# Altium footprint library CONN_TBLOCK_5P0_B.PcbLib: 72 footprints (part 3 of 5)
Each footprint in its own frame and in the unit in brackets; x right, y up, seen from the top. Pads: shape width x height; smd on the part's side, far side on the other; paste and mask are expansions set on the pad; w line width, h text height; cw(c..) or ccw(c..) is an arc to the next point about the centre after c.
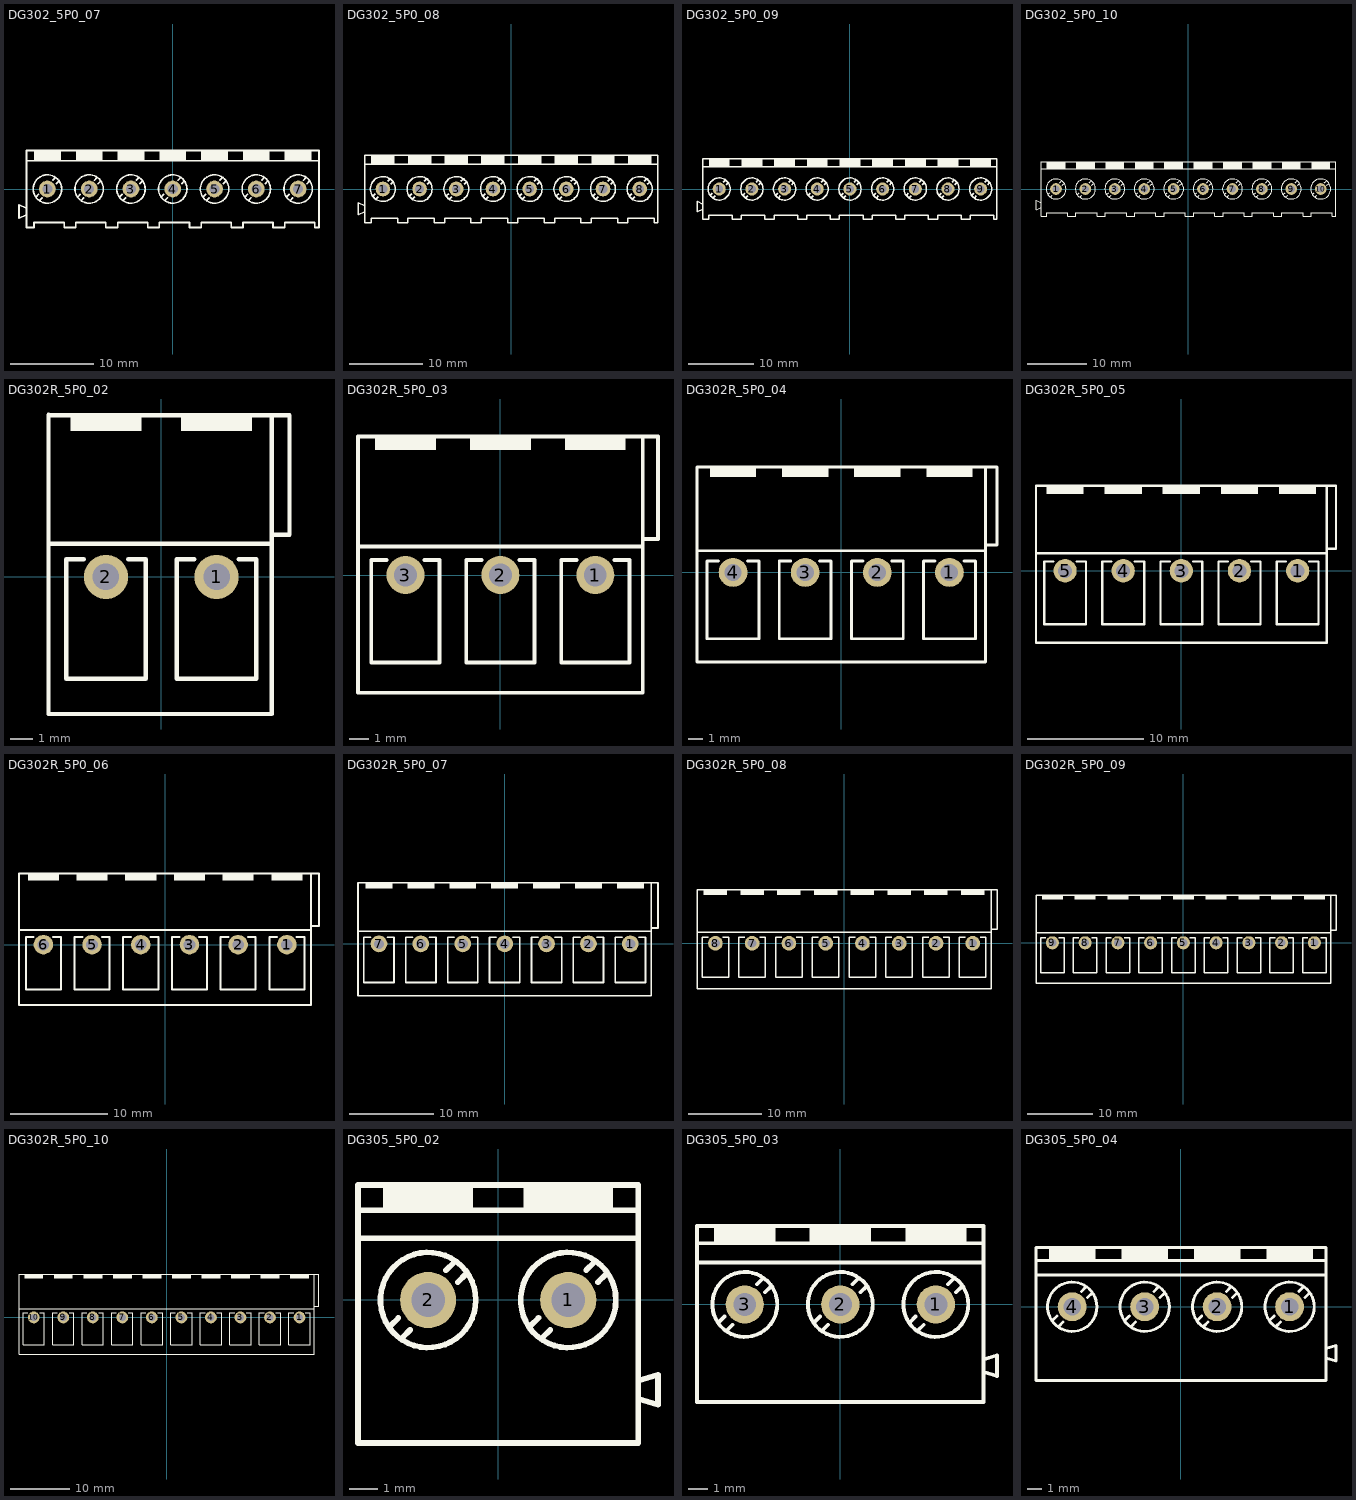
[diagram p2: the footprints below, top view; thin cyan lines are the x and y axes]

## DG302_5P0_07 [mm] "Terminal Screw, Pitch 5mm, H 13.5mm"
height 13.5
pads (7):
  round 2 / inner round 2 / far side rect 2.4x3 hole 1.2: 1(-15,0)
  round 2 / inner round 2 / far side oval 2.4x3 hole 1.2: 2(-10,0) 3(-5,0) 4(0,0) 5(5,0) 6(10,0) 7(15,0)
Top Overlay:
  circle w0.2: c-10,0 r1.7
  circle w0.2: c-15,0 r1.7
  circle w0.2: c0,0 r1.7
  circle w0.2: c-5,0 r1.7
  circle w0.2: c10,0 r1.7
  circle w0.2: c5,0 r1.7
  circle w0.2: c15,0 r1.7
  region: -13.4,4.6 -16.6,4.6 -16.6,3.4 -13.4,3.4
  rectangle: -11.6,3.4 -8.4,4.6
  region: -3.4,4.6 -6.6,4.6 -6.6,3.4 -3.4,3.4
  rectangle: -1.6,3.4 1.6,4.6
  region: 6.6,4.6 3.4,4.6 3.4,3.4 6.6,3.4
  rectangle: 8.4,3.4 11.6,4.6
  rectangle: 13.4,3.4 16.6,4.6
  lines w0.2: -17.5,3.4 17.5,3.4 ; -17.5,-3.1 -18.4,-3.5 -18.4,-1.9 -17.5,-2.3 ; -16.343,-0.919 -16.06,-0.636 ; -15.919,-1.344 -15.636,-1.061 ; -14.363,1.061 -14.081,1.343 ; -13.939,0.636 -13.656,0.919 ; -11.343,-0.919 -11.061,-0.636 ; -10.919,-1.344 -10.636,-1.061 ; -9.364,1.061 -9.081,1.343 ; -8.939,0.636 -8.656,0.919 ; -6.343,-0.919 -6.061,-0.636 ; -5.919,-1.344 -5.636,-1.061 ; -4.364,1.061 -4.081,1.343 ; -3.939,0.636 -3.656,0.919 ; -1.344,-0.919 -1.061,-0.636 ; -0.919,-1.344 -0.636,-1.061 ; 0.636,1.061 0.919,1.343 ; 1.061,0.636 1.343,0.919 ; 3.656,-0.919 3.939,-0.636 ; 4.081,-1.344 4.364,-1.061 ; 5.636,1.061 5.919,1.343 ; 6.061,0.636 6.343,0.919 ; 8.656,-0.919 8.939,-0.636 ; 9.081,-1.344 9.363,-1.061 ; 10.636,1.061 10.919,1.343 ; 11.061,0.636 11.343,0.919 ; 13.656,-0.919 13.939,-0.636 ; 14.081,-1.344 14.363,-1.061 ; 15.636,1.061 15.919,1.343 ; 16.06,0.636 16.343,0.919 ; -17.5,-4.6 -17.5,4.6 17.5,4.6 17.5,-4.6 17,-4.6 17,-4 13.4,-4 13.4,-4.6 12,-4.6 12,-4 8.4,-4 8.4,-4.6 7,-4.6 7,-4 3.4,-4 3.4,-4.6 2,-4.6 2,-4 -1.6,-4 -1.6,-4.6 -3,-4.6 -3,-4 -6.6,-4 -6.6,-4.6 -8,-4.6 -8,-4 -11.6,-4 -11.6,-4.6 -13,-4.6 -13,-4 -16.6,-4 -16.6,-4.6 -17.5,-4.6
3D body "DG302-5.0-07P-14.stp": height 13.5, standoff -4.1, extent -18.22,-4.5 17.58,4.5

## DG302_5P0_08 [mm] "Terminal Screw, Pitch 5mm, H 13.5mm"
height 13.5
pads (8):
  round 2 / inner round 2 / far side rect 2.4x3 hole 1.2: 1(-17.5,0)
  round 2 / inner round 2 / far side oval 2.4x3 hole 1.2: 2(-12.5,0) 3(-7.5,0) 4(-2.5,0) 5(2.5,0) 6(7.5,0) 7(12.5,0) 8(17.5,0)
Top Overlay:
  circle w0.2: c17.5,0 r1.7
  circle w0.2: c12.5,0 r1.7
  circle w0.2: c2.5,0 r1.7
  circle w0.2: c7.5,0 r1.7
  circle w0.2: c-7.5,0 r1.7
  circle w0.2: c-2.5,0 r1.7
  circle w0.2: c-17.5,0 r1.7
  circle w0.2: c-12.5,0 r1.7
  rectangle: 15.9,3.4 19.1,4.6
  region: 14.1,4.6 10.9,4.6 10.9,3.4 14.1,3.4
  rectangle: 5.9,3.4 9.1,4.6
  region: 4.1,4.6 0.9,4.6 0.9,3.4 4.1,3.4
  rectangle: -4.1,3.4 -0.9,4.6
  region: -5.9,4.6 -9.1,4.6 -9.1,3.4 -5.9,3.4
  rectangle: -14.1,3.4 -10.9,4.6
  region: -15.9,4.6 -19.1,4.6 -19.1,3.4 -15.9,3.4
  lines w0.2: -20,-3.1 -20.9,-3.5 -20.9,-1.9 -20,-2.3 ; -20,3.4 20,3.4 ; -18.843,-0.919 -18.56,-0.636 ; -18.419,-1.344 -18.136,-1.061 ; -16.863,1.061 -16.581,1.343 ; -16.439,0.636 -16.156,0.919 ; -13.843,-0.919 -13.561,-0.636 ; -13.419,-1.344 -13.136,-1.061 ; -11.863,1.061 -11.581,1.343 ; -11.439,0.636 -11.156,0.919 ; -8.843,-0.919 -8.561,-0.636 ; -8.419,-1.344 -8.136,-1.061 ; -6.864,1.061 -6.581,1.343 ; -6.439,0.636 -6.156,0.919 ; -3.843,-0.919 -3.561,-0.636 ; -3.419,-1.344 -3.136,-1.061 ; -1.864,1.061 -1.581,1.343 ; -1.439,0.636 -1.156,0.919 ; 1.156,-0.919 1.439,-0.636 ; 1.581,-1.344 1.864,-1.061 ; 3.136,1.061 3.419,1.343 ; 3.561,0.636 3.843,0.919 ; 6.156,-0.919 6.439,-0.636 ; 6.581,-1.344 6.863,-1.061 ; 8.136,1.061 8.419,1.343 ; 8.561,0.636 8.843,0.919 ; 11.156,-0.919 11.439,-0.636 ; 11.581,-1.344 11.863,-1.061 ; 13.136,1.061 13.419,1.343 ; 13.56,0.636 13.843,0.919 ; 16.156,-0.919 16.439,-0.636 ; 16.581,-1.344 16.863,-1.061 ; 18.136,1.061 18.419,1.343 ; 18.56,0.636 18.843,0.919 ; -20,-4.6 -19.1,-4.6 -19.1,-4 -15.5,-4 -15.5,-4.6 -14.1,-4.6 -14.1,-4 -10.5,-4 -10.5,-4.6 -9.1,-4.6 -9.1,-4 -5.5,-4 -5.5,-4.6 -4.1,-4.6 -4.1,-4 -0.5,-4 -0.5,-4.6 0.9,-4.6 0.9,-4 4.5,-4 4.5,-4.6 5.9,-4.6 5.9,-4 9.5,-4 9.5,-4.6 10.9,-4.6 10.9,-4 14.5,-4 14.5,-4.6 15.9,-4.6 15.9,-4 19.5,-4 19.5,-4.6 20,-4.6 20,4.6 -20,4.6 -20,-4.6
3D body "DG302-5.0-08P-14.stp": height 13.5, standoff -4.1, extent -20.8,-4.5 20,4.5

## DG302_5P0_09 [mm] "Terminal Screw, Pitch 5mm, H 13.5mm"
height 13.5
pads (9):
  round 2 / inner round 2 / far side rect 2.4x3 hole 1.2: 1(-20,0)
  round 2 / inner round 2 / far side oval 2.4x3 hole 1.2: 2(-15,0) 3(-10,0) 4(-5,0) 5(0,0) 6(5,0) 7(10,0) 8(15,0) 9(20,0)
Top Overlay:
  circle w0.2: c-15,0 r1.7
  circle w0.2: c-20,0 r1.7
  circle w0.2: c-5,0 r1.7
  circle w0.2: c-10,0 r1.7
  circle w0.2: c5,0 r1.7
  circle w0.2: c0,0 r1.7
  circle w0.2: c15,0 r1.7
  circle w0.2: c10,0 r1.7
  circle w0.2: c20,0 r1.7
  region: -18.4,4.6 -21.6,4.6 -21.6,3.4 -18.4,3.4
  rectangle: -16.6,3.4 -13.4,4.6
  region: -8.4,4.6 -11.6,4.6 -11.6,3.4 -8.4,3.4
  rectangle: -6.6,3.4 -3.4,4.6
  region: 1.6,4.6 -1.6,4.6 -1.6,3.4 1.6,3.4
  rectangle: 3.4,3.4 6.6,4.6
  region: 11.6,4.6 8.4,4.6 8.4,3.4 11.6,3.4
  rectangle: 13.4,3.4 16.6,4.6
  rectangle: 18.4,3.4 21.6,4.6
  lines w0.2: -22.5,3.4 22.5,3.4 ; -22.5,-3.1 -23.4,-3.5 -23.4,-1.9 -22.5,-2.3 ; -21.343,-0.919 -21.06,-0.636 ; -20.919,-1.344 -20.636,-1.061 ; -19.363,1.061 -19.081,1.343 ; -18.939,0.636 -18.656,0.919 ; -16.343,-0.919 -16.06,-0.636 ; -15.919,-1.344 -15.636,-1.061 ; -14.363,1.061 -14.081,1.343 ; -13.939,0.636 -13.656,0.919 ; -11.343,-0.919 -11.061,-0.636 ; -10.919,-1.344 -10.636,-1.061 ; -9.364,1.061 -9.081,1.343 ; -8.939,0.636 -8.656,0.919 ; -6.343,-0.919 -6.061,-0.636 ; -5.919,-1.344 -5.636,-1.061 ; -4.364,1.061 -4.081,1.343 ; -3.939,0.636 -3.656,0.919 ; -1.344,-0.919 -1.061,-0.636 ; -0.919,-1.344 -0.636,-1.061 ; 0.636,1.061 0.919,1.343 ; 1.061,0.636 1.343,0.919 ; 3.656,-0.919 3.939,-0.636 ; 4.081,-1.344 4.364,-1.061 ; 5.636,1.061 5.919,1.343 ; 6.061,0.636 6.343,0.919 ; 8.656,-0.919 8.939,-0.636 ; 9.081,-1.344 9.363,-1.061 ; 10.636,1.061 10.919,1.343 ; 11.061,0.636 11.343,0.919 ; 13.656,-0.919 13.939,-0.636 ; 14.081,-1.344 14.363,-1.061 ; 15.636,1.061 15.919,1.343 ; 16.06,0.636 16.343,0.919 ; 18.656,-0.919 18.939,-0.636 ; 19.08,-1.344 19.363,-1.061 ; 20.636,1.061 20.919,1.343 ; 21.06,0.636 21.343,0.919 ; -22.5,-4.6 -22.5,4.6 22.5,4.6 22.5,-4.6 21.999,-4.6 21.999,-4 18.399,-4 18.399,-4.6 17,-4.6 17,-4 13.4,-4 13.4,-4.6 12,-4.6 12,-4 8.4,-4 8.4,-4.6 7,-4.6 7,-4 3.4,-4 3.4,-4.6 2,-4.6 2,-4 -1.6,-4 -1.6,-4.6 -3,-4.6 -3,-4 -6.6,-4 -6.6,-4.6 -8,-4.6 -8,-4 -11.6,-4 -11.6,-4.6 -13,-4.6 -13,-4 -16.6,-4 -16.6,-4.6 -18,-4.6 -18,-4 -21.6,-4 -21.6,-4.6 -22.5,-4.6
3D body "DG302-5.0-09P-14.stp": height 13.5, standoff -4.1, extent -23.3,-4.5 22.5,4.5

## DG302_5P0_10 [mm] "Terminal Screw, Pitch 5mm, H 13.5mm"
height 13.5
pads (10):
  round 2 / inner round 2 / far side rect 2.4x3 hole 1.2: 1(-22.5,0)
  round 2 / inner round 2 / far side oval 2.4x3 hole 1.2: 2(-17.5,0) 3(-12.5,0) 4(-7.5,0) 5(-2.5,0) 6(2.5,0) 7(7.5,0) 8(12.5,0) 9(17.5,0) 10(22.5,0)
Top Overlay:
  circle w0.2: c-17.5,0 r1.7
  circle w0.2: c-22.5,0 r1.7
  circle w0.2: c-7.5,0 r1.7
  circle w0.2: c-12.5,0 r1.7
  circle w0.2: c2.5,0 r1.7
  circle w0.2: c-2.5,0 r1.7
  circle w0.2: c12.5,0 r1.7
  circle w0.2: c7.5,0 r1.7
  circle w0.2: c22.5,0 r1.7
  circle w0.2: c17.5,0 r1.7
  region: -20.9,4.6 -24.1,4.6 -24.1,3.4 -20.9,3.4
  rectangle: -19.1,3.4 -15.9,4.6
  region: -10.9,4.6 -14.1,4.6 -14.1,3.4 -10.9,3.4
  rectangle: -9.1,3.4 -5.9,4.6
  region: -0.9,4.6 -4.1,4.6 -4.1,3.4 -0.9,3.4
  rectangle: 0.9,3.4 4.1,4.6
  region: 9.1,4.6 5.9,4.6 5.9,3.4 9.1,3.4
  rectangle: 10.9,3.4 14.1,4.6
  region: 19.1,4.6 15.9,4.6 15.9,3.4 19.1,3.4
  rectangle: 20.9,3.4 24.1,4.6
  lines w0.2: -25,-3.1 -25.9,-3.5 -25.9,-1.9 -25,-2.3 ; -25,3.4 25.1,3.4 ; -23.843,-0.919 -23.56,-0.636 ; -23.419,-1.344 -23.136,-1.061 ; -21.863,1.061 -21.581,1.343 ; -21.439,0.636 -21.156,0.919 ; -18.843,-0.919 -18.56,-0.636 ; -18.419,-1.344 -18.136,-1.061 ; -16.863,1.061 -16.581,1.343 ; -16.439,0.636 -16.156,0.919 ; -13.843,-0.919 -13.561,-0.636 ; -13.419,-1.344 -13.136,-1.061 ; -11.863,1.061 -11.581,1.343 ; -11.439,0.636 -11.156,0.919 ; -8.843,-0.919 -8.561,-0.636 ; -8.419,-1.344 -8.136,-1.061 ; -6.864,1.061 -6.581,1.343 ; -6.439,0.636 -6.156,0.919 ; -3.843,-0.919 -3.561,-0.636 ; -3.419,-1.344 -3.136,-1.061 ; -1.864,1.061 -1.581,1.343 ; -1.439,0.636 -1.156,0.919 ; 1.156,-0.919 1.439,-0.636 ; 1.581,-1.344 1.864,-1.061 ; 3.136,1.061 3.419,1.343 ; 3.561,0.636 3.843,0.919 ; 6.156,-0.919 6.439,-0.636 ; 6.581,-1.344 6.863,-1.061 ; 8.136,1.061 8.419,1.343 ; 8.561,0.636 8.843,0.919 ; 11.156,-0.919 11.439,-0.636 ; 11.581,-1.344 11.863,-1.061 ; 13.136,1.061 13.419,1.343 ; 13.56,0.636 13.843,0.919 ; 16.156,-0.919 16.439,-0.636 ; 16.581,-1.344 16.863,-1.061 ; 18.136,1.061 18.419,1.343 ; 18.56,0.636 18.843,0.919 ; 21.156,-0.919 21.439,-0.636 ; 21.58,-1.344 21.863,-1.061 ; 23.136,1.061 23.419,1.343 ; 23.56,0.636 23.843,0.919 ; -25,-4.6 -25,4.6 25.1,4.6 25.1,-4.6 24.499,-4.6 24.499,-4 20.899,-4 20.899,-4.6 19.5,-4.6 19.5,-4 15.9,-4 15.9,-4.6 14.5,-4.6 14.5,-4 10.9,-4 10.9,-4.6 9.5,-4.6 9.5,-4 5.9,-4 5.9,-4.6 4.5,-4.6 4.5,-4 0.9,-4 0.9,-4.6 -0.5,-4.6 -0.5,-4 -4.1,-4 -4.1,-4.6 -5.5,-4.6 -5.5,-4 -9.1,-4 -9.1,-4.6 -10.5,-4.6 -10.5,-4 -14.1,-4 -14.1,-4.6 -15.5,-4.6 -15.5,-4 -19.1,-4 -19.1,-4.6 -20.5,-4.6 -20.5,-4 -24.1,-4 -24.1,-4.6 -25,-4.6
3D body "DG302-5.0-10P-14.stp": height 13.5, standoff -4.1, extent -25.8,-4.5 25,4.5

## DG302R_5P0_02 [mm] "Terminal Screw, Pitch 5mm, H 9mm"
height 10
pads (2):
  round 2 / inner round 2 / far side rect 2.4x3 hole 1.2: 1(2.5,0)
  round 2 / inner round 2 / far side oval 2.4x3 hole 1.2: 2(-2.5,0)
Top Overlay:
  region: -0.9,7.366 -4.1,7.366 -4.1,6.6 -0.9,6.6
  region: 4.1,7.366 0.9,7.366 0.9,6.6 4.1,6.6
  lines w0.2: -5.1,1.5 5,1.5 ; -5.1,7.3 5,7.3 ; -5.1,7.323 -5.1,-6.2 5,-6.2 5,7.3 ; -3.5,0.8 -4.3,0.8 -4.3,-4.6 -0.7,-4.6 -0.7,0.8 -1.5,0.8 ; 1.5,0.8 0.7,0.8 0.7,-4.6 4.3,-4.6 4.3,0.8 3.5,0.8 ; 5,1.9 5.8,1.9 5.8,7.3 5,7.3
3D body "DG302R-5.0-02P-12-00AH.STEP": height 9, standoff -4.1, extent -5.009,-6.273 5.791,7.227

## DG302R_5P0_03 [mm] "Terminal Screw, Pitch 5mm, H 9mm"
height 10
pads (3):
  round 2 / inner round 2 / far side rect 2.4x3 hole 1.2: 1(5,0)
  round 2 / inner round 2 / far side oval 2.4x3 hole 1.2: 2(0,0) 3(-5,0)
Top Overlay:
  region: 1.6,7.366 -1.6,7.366 -1.6,6.6 1.6,6.6
  region: 6.6,7.366 3.4,7.366 3.4,6.6 6.6,6.6
  region: -3.4,7.366 -6.6,7.366 -6.6,6.6 -3.4,6.6
  lines w0.2: -7.5,1.5 7.5,1.5 ; -6,0.8 -6.8,0.8 -6.8,-4.6 -3.2,-4.6 -3.2,0.8 -4,0.8 ; -1,0.8 -1.8,0.8 -1.8,-4.6 1.8,-4.6 1.8,0.8 1,0.8 ; 4,0.8 3.2,0.8 3.2,-4.6 6.8,-4.6 6.8,0.8 6,0.8 ; 7.5,-6.2 7.5,7.3 8.3,7.3 8.3,1.9 7.5,1.9 ; 7.5,-6.2 -7.5,-6.2 -7.5,7.3 7.5,7.3
3D body "DG302R-5.0-03P-12-00AH.STEP": height 9, standoff -4.1, extent -7.466,-6.3 8.334,7.2

## DG302R_5P0_04 [mm] "Terminal Screw, Pitch 5mm, H 9mm"
height 10
pads (4):
  round 2 / inner round 2 / far side rect 2.4x3 hole 1.2: 1(7.5,0)
  round 2 / inner round 2 / far side oval 2.4x3 hole 1.2: 2(2.5,0) 3(-2.5,0) 4(-7.5,0)
Top Overlay:
  region: 4.1,7.366 0.9,7.366 0.9,6.6 4.1,6.6
  region: 9.1,7.366 5.9,7.366 5.9,6.6 9.1,6.6
  region: -5.9,7.366 -9.1,7.366 -9.1,6.6 -5.9,6.6
  region: -0.9,7.366 -4.1,7.366 -4.1,6.6 -0.9,6.6
  lines w0.2: -10,1.5 10,1.5 ; -8.5,0.8 -9.3,0.8 -9.3,-4.6 -5.7,-4.6 -5.7,0.8 -6.5,0.8 ; -3.5,0.8 -4.3,0.8 -4.3,-4.6 -0.7,-4.6 -0.7,0.8 -1.5,0.8 ; 1.5,0.8 0.7,0.8 0.7,-4.6 4.3,-4.6 4.3,0.8 3.5,0.8 ; 6.5,0.8 5.7,0.8 5.7,-4.6 9.3,-4.6 9.3,0.8 8.5,0.8 ; 10,1.9 10.8,1.9 10.8,7.3 10,7.3 ; 10,7.3 -10,7.3 -10,-6.2 10,-6.2 10,7.3
3D body "DG302R-5.0-04P-12-00AH.STEP": height 9, standoff -4.1, extent -10.026,-6.25 10.774,7.25

## DG302R_5P0_05 [mm] "Terminal Screw, Pitch 5mm, H 9mm"
height 10
pads (5):
  round 2 / inner round 2 / far side rect 2.4x3 hole 1.2: 1(10,0)
  round 2 / inner round 2 / far side oval 2.4x3 hole 1.2: 2(5,0) 3(0,0) 4(-5,0) 5(-10,0)
Top Overlay:
  region: -8.4,7.366 -11.6,7.366 -11.6,6.6 -8.4,6.6
  region: 1.6,7.366 -1.6,7.366 -1.6,6.6 1.6,6.6
  region: -3.4,7.366 -6.6,7.366 -6.6,6.6 -3.4,6.6
  region: 11.6,7.366 8.4,7.366 8.4,6.6 11.6,6.6
  region: 6.6,7.366 3.4,7.366 3.4,6.6 6.6,6.6
  lines w0.2: -12.5,1.5 12.5,1.5 ; -11,0.8 -11.8,0.8 -11.8,-4.6 -8.2,-4.6 -8.2,0.8 -9,0.8 ; -6,0.8 -6.8,0.8 -6.8,-4.6 -3.2,-4.6 -3.2,0.8 -4,0.8 ; -1,0.8 -1.8,0.8 -1.8,-4.6 1.8,-4.6 1.8,0.8 1,0.8 ; 4,0.8 3.2,0.8 3.2,-4.6 6.8,-4.6 6.8,0.8 6,0.8 ; 9,0.8 8.2,0.8 8.2,-4.6 11.8,-4.6 11.8,0.8 11,0.8 ; 12.5,-6.2 12.5,7.3 13.3,7.3 13.3,1.9 12.5,1.9 ; 12.5,-6.2 -12.5,-6.2 -12.5,7.3 12.5,7.3
3D body "DG302R-5.0-05P-12-00AH.STEP": height 9, standoff -4.1, extent -12.493,-6.242 13.307,7.258

## DG302R_5P0_06 [mm] "Terminal Screw, Pitch 5mm, H 9mm"
height 10
pads (6):
  round 2 / inner round 2 / far side rect 2.4x3 hole 1.2: 1(12.5,0)
  round 2 / inner round 2 / far side oval 2.4x3 hole 1.2: 2(7.5,0) 3(2.5,0) 4(-2.5,0) 5(-7.5,0) 6(-12.5,0)
Top Overlay:
  region: -5.9,7.366 -9.1,7.366 -9.1,6.6 -5.9,6.6
  region: -10.9,7.366 -14.1,7.366 -14.1,6.6 -10.9,6.6
  region: 4.1,7.366 0.9,7.366 0.9,6.6 4.1,6.6
  region: -0.9,7.366 -4.1,7.366 -4.1,6.6 -0.9,6.6
  region: 14.1,7.366 10.9,7.366 10.9,6.6 14.1,6.6
  region: 9.1,7.366 5.9,7.366 5.9,6.6 9.1,6.6
  lines w0.2: -15,1.5 15,1.5 ; -13.5,0.8 -14.3,0.8 -14.3,-4.6 -10.7,-4.6 -10.7,0.8 -11.5,0.8 ; -8.5,0.8 -9.3,0.8 -9.3,-4.6 -5.7,-4.6 -5.7,0.8 -6.5,0.8 ; -3.5,0.8 -4.3,0.8 -4.3,-4.6 -0.7,-4.6 -0.7,0.8 -1.5,0.8 ; 1.5,0.8 0.7,0.8 0.7,-4.6 4.3,-4.6 4.3,0.8 3.5,0.8 ; 6.5,0.8 5.7,0.8 5.7,-4.6 9.3,-4.6 9.3,0.8 8.5,0.8 ; 11.5,0.8 10.7,0.8 10.7,-4.6 14.3,-4.6 14.3,0.8 13.5,0.8 ; 15,1.9 15.8,1.9 15.8,7.3 15,7.3 ; 15,7.3 15,-6.2 -15,-6.2 -15,7.3 15,7.3
3D body "DG302R-5.0-06P-12-00AH.STEP": height 9, standoff -4.1, extent -15.026,-6.273 15.774,7.227

## DG302R_5P0_07 [mm] "Terminal Screw, Pitch 5mm, H 9mm"
height 10
pads (7):
  round 2 / inner round 2 / far side rect 2.4x3 hole 1.2: 1(15,0)
  round 2 / inner round 2 / far side oval 2.4x3 hole 1.2: 2(10,0) 3(5,0) 4(0,0) 5(-5,0) 6(-10,0) 7(-15,0)
Top Overlay:
  region: -13.4,7.366 -16.6,7.366 -16.6,6.6 -13.4,6.6
  region: -3.4,7.366 -6.6,7.366 -6.6,6.6 -3.4,6.6
  region: -8.4,7.366 -11.6,7.366 -11.6,6.6 -8.4,6.6
  region: 6.6,7.366 3.4,7.366 3.4,6.6 6.6,6.6
  region: 1.6,7.366 -1.6,7.366 -1.6,6.6 1.6,6.6
  region: 16.6,7.366 13.4,7.366 13.4,6.6 16.6,6.6
  region: 11.6,7.366 8.4,7.366 8.4,6.6 11.6,6.6
  lines w0.2: -17.5,1.5 17.5,1.5 ; -16,0.8 -16.8,0.8 -16.8,-4.6 -13.2,-4.6 -13.2,0.8 -14,0.8 ; -11,0.8 -11.8,0.8 -11.8,-4.6 -8.2,-4.6 -8.2,0.8 -9,0.8 ; -6,0.8 -6.8,0.8 -6.8,-4.6 -3.2,-4.6 -3.2,0.8 -4,0.8 ; -1,0.8 -1.8,0.8 -1.8,-4.6 1.8,-4.6 1.8,0.8 1,0.8 ; 4,0.8 3.2,0.8 3.2,-4.6 6.8,-4.6 6.8,0.8 6,0.8 ; 9,0.8 8.2,0.8 8.2,-4.6 11.8,-4.6 11.8,0.8 11,0.8 ; 14,0.8 13.2,0.8 13.2,-4.6 16.8,-4.6 16.8,0.8 16,0.8 ; 17.5,1.9 18.3,1.9 18.3,7.3 17.5,7.3 ; 17.5,7.3 17.5,-6.2 -17.5,-6.2 -17.5,7.3 17.5,7.3
3D body "DG302R-5.0-07P-12-00AH.STEP": height 9, standoff -4.1, extent -17.486,-6.273 18.314,7.227

## DG302R_5P0_08 [mm] "Terminal Screw, Pitch 5mm, H 9mm"
height 10
pads (8):
  round 2 / inner round 2 / far side rect 2.4x3 hole 1.2: 1(17.5,0)
  round 2 / inner round 2 / far side oval 2.4x3 hole 1.2: 2(12.5,0) 3(7.5,0) 4(2.5,0) 5(-2.5,0) 6(-7.5,0) 7(-12.5,0) 8(-17.5,0)
Top Overlay:
  region: -10.9,7.366 -14.1,7.366 -14.1,6.6 -10.9,6.6
  region: -15.9,7.366 -19.1,7.366 -19.1,6.6 -15.9,6.6
  region: -0.9,7.366 -4.1,7.366 -4.1,6.6 -0.9,6.6
  region: -5.9,7.366 -9.1,7.366 -9.1,6.6 -5.9,6.6
  region: 9.1,7.366 5.9,7.366 5.9,6.6 9.1,6.6
  region: 4.1,7.366 0.9,7.366 0.9,6.6 4.1,6.6
  region: 19.1,7.366 15.9,7.366 15.9,6.6 19.1,6.6
  region: 14.1,7.366 10.9,7.366 10.9,6.6 14.1,6.6
  lines w0.2: -20,1.5 20,1.5 ; -18.5,0.8 -19.3,0.8 -19.3,-4.6 -15.7,-4.6 -15.7,0.8 -16.5,0.8 ; -13.5,0.8 -14.3,0.8 -14.3,-4.6 -10.7,-4.6 -10.7,0.8 -11.5,0.8 ; -8.5,0.8 -9.3,0.8 -9.3,-4.6 -5.7,-4.6 -5.7,0.8 -6.5,0.8 ; -3.5,0.8 -4.3,0.8 -4.3,-4.6 -0.7,-4.6 -0.7,0.8 -1.5,0.8 ; 1.5,0.8 0.7,0.8 0.7,-4.6 4.3,-4.6 4.3,0.8 3.5,0.8 ; 6.5,0.8 5.7,0.8 5.7,-4.6 9.3,-4.6 9.3,0.8 8.5,0.8 ; 11.5,0.8 10.7,0.8 10.7,-4.6 14.3,-4.6 14.3,0.8 13.5,0.8 ; 16.5,0.8 15.7,0.8 15.7,-4.6 19.3,-4.6 19.3,0.8 18.5,0.8 ; 20,1.9 20.8,1.9 20.8,7.3 20,7.3 ; 20,7.3 20,-6.2 -20,-6.2 -20,7.3 20,7.3
3D body "DG302R-5.0-08P-12-00AH.STEP": height 9, standoff -4.1, extent -19.973,-6.273 20.827,7.227

## DG302R_5P0_09 [mm] "Terminal Screw, Pitch 5mm, H 9mm"
height 9
pads (9):
  round 2 / inner round 2 / far side rect 2.4x3 hole 1.2: 1(20,0)
  round 2 / inner round 2 / far side oval 2.4x3 hole 1.2: 2(15,0) 3(10,0) 4(5,0) 5(0,0) 6(-5,0) 7(-10,0) 8(-15,0) 9(-20,0)
Top Overlay:
  region: 16.6,7.366 13.4,7.366 13.4,6.6 16.6,6.6
  region: 21.6,7.366 18.4,7.366 18.4,6.6 21.6,6.6
  region: 6.6,7.366 3.4,7.366 3.4,6.6 6.6,6.6
  region: 11.6,7.366 8.4,7.366 8.4,6.6 11.6,6.6
  region: -3.4,7.366 -6.6,7.366 -6.6,6.6 -3.4,6.6
  region: 1.6,7.366 -1.6,7.366 -1.6,6.6 1.6,6.6
  region: -13.4,7.366 -16.6,7.366 -16.6,6.6 -13.4,6.6
  region: -8.4,7.366 -11.6,7.366 -11.6,6.6 -8.4,6.6
  region: -18.4,7.366 -21.6,7.366 -21.6,6.6 -18.4,6.6
  lines w0.2: -22.5,1.5 22.5,1.5 ; -21,0.8 -21.8,0.8 -21.8,-4.6 -18.2,-4.6 -18.2,0.8 -19,0.8 ; -16,0.8 -16.8,0.8 -16.8,-4.6 -13.2,-4.6 -13.2,0.8 -14,0.8 ; -11,0.8 -11.8,0.8 -11.8,-4.6 -8.2,-4.6 -8.2,0.8 -9,0.8 ; -6,0.8 -6.8,0.8 -6.8,-4.6 -3.2,-4.6 -3.2,0.8 -4,0.8 ; -1,0.8 -1.8,0.8 -1.8,-4.6 1.8,-4.6 1.8,0.8 1,0.8 ; 4,0.8 3.2,0.8 3.2,-4.6 6.8,-4.6 6.8,0.8 6,0.8 ; 9,0.8 8.2,0.8 8.2,-4.6 11.8,-4.6 11.8,0.8 11,0.8 ; 14,0.8 13.2,0.8 13.2,-4.6 16.8,-4.6 16.8,0.8 16,0.8 ; 19,0.8 18.2,0.8 18.2,-4.6 21.8,-4.6 21.8,0.8 21,0.8 ; 22.5,1.9 23.3,1.9 23.3,7.3 22.5,7.3 ; 22.5,7.3 -22.5,7.3 -22.5,-6.2 22.5,-6.2 22.5,7.3
3D body "DG302R-5.0-09P-12-00AH.STEP": height 9, standoff -4.1, extent -22.493,-6.242 23.307,7.258

## DG302R_5P0_10 [mm] "Terminal Screw, Pitch 5mm, H 9mm"
height 10
pads (10):
  round 2 / inner round 2 / far side rect 2.4x3 hole 1.2: 1(22.5,0)
  round 2 / inner round 2 / far side oval 2.4x3 hole 1.2: 2(17.5,0) 3(12.5,0) 4(7.5,0) 5(2.5,0) 6(-2.5,0) 7(-7.5,0) 8(-12.5,0) 9(-17.5,0) 10(-22.5,0)
Top Overlay:
  region: -15.9,7.366 -19.1,7.366 -19.1,6.6 -15.9,6.6
  region: -20.9,7.366 -24.1,7.366 -24.1,6.6 -20.9,6.6
  region: -5.9,7.366 -9.1,7.366 -9.1,6.6 -5.9,6.6
  region: -10.9,7.366 -14.1,7.366 -14.1,6.6 -10.9,6.6
  region: 4.1,7.366 0.9,7.366 0.9,6.6 4.1,6.6
  region: -0.9,7.366 -4.1,7.366 -4.1,6.6 -0.9,6.6
  region: 14.1,7.366 10.9,7.366 10.9,6.6 14.1,6.6
  region: 9.1,7.366 5.9,7.366 5.9,6.6 9.1,6.6
  region: 24.1,7.366 20.9,7.366 20.9,6.6 24.1,6.6
  region: 19.1,7.366 15.9,7.366 15.9,6.6 19.1,6.6
  lines w0.2: -25,1.5 25,1.5 ; -23.5,0.8 -24.3,0.8 -24.3,-4.6 -20.7,-4.6 -20.7,0.8 -21.5,0.8 ; -18.5,0.8 -19.3,0.8 -19.3,-4.6 -15.7,-4.6 -15.7,0.8 -16.5,0.8 ; -13.5,0.8 -14.3,0.8 -14.3,-4.6 -10.7,-4.6 -10.7,0.8 -11.5,0.8 ; -8.5,0.8 -9.3,0.8 -9.3,-4.6 -5.7,-4.6 -5.7,0.8 -6.5,0.8 ; -3.5,0.8 -4.3,0.8 -4.3,-4.6 -0.7,-4.6 -0.7,0.8 -1.5,0.8 ; 1.5,0.8 0.7,0.8 0.7,-4.6 4.3,-4.6 4.3,0.8 3.5,0.8 ; 6.5,0.8 5.7,0.8 5.7,-4.6 9.3,-4.6 9.3,0.8 8.5,0.8 ; 11.5,0.8 10.7,0.8 10.7,-4.6 14.3,-4.6 14.3,0.8 13.5,0.8 ; 16.5,0.8 15.7,0.8 15.7,-4.6 19.3,-4.6 19.3,0.8 18.5,0.8 ; 21.5,0.8 20.7,0.8 20.7,-4.6 24.3,-4.6 24.3,0.8 23.5,0.8 ; 25,1.9 25.8,1.9 25.8,7.3 25,7.3 ; 25,7.3 25,-6.2 -25,-6.2 -25,7.3 25,7.3
3D body "DG302R-5.0-10P-12-00AH.STEP": height 9, standoff -4.1, extent -24.99,-6.319 25.81,7.181

## DG305_5P0_02 [mm] "Terminal B Screw, Pitch 5mm, H 12.6mm"
height 12.6
pads (2):
  round 2 / inner round 2 / far side rect 2.4x3 hole 1.2: 1(2.5,0)
  round 2 / inner round 2 / far side oval 2.4x3 hole 1.2: 2(-2.5,0)
Top Overlay:
  circle w0.2: c2.5,0 r1.7
  circle w0.2: c-2.5,0 r1.7
  region: 4.1,4.1 0.9,4.1 0.9,3.1 4.1,3.1
  region: -0.9,4.1 -4.1,4.1 -4.1,3.1 -0.9,3.1
  lines w0.2: -5,2.2 5,2.2 ; -5,3.2 5,3.2 ; -3.843,-0.919 -3.561,-0.636 ; -3.419,-1.344 -3.136,-1.061 ; -1.864,1.061 -1.581,1.343 ; -1.439,0.636 -1.156,0.919 ; 1.156,-0.919 1.439,-0.636 ; 1.581,-1.344 1.864,-1.061 ; 3.136,1.061 3.419,1.343 ; 3.561,0.636 3.843,0.919 ; 4.992,-3.526 5.7,-3.741 5.7,-2.667 4.994,-2.881 ; -5,-5.1 5,-5.1 5,4.1 -5,4.1 -5,-5.1
3D body "DG305-5.0-02P-12-00AH.STEP": height 12.6, standoff -4.9, extent -4.959,-5.011 5.641,3.989

## DG305_5P0_03 [mm] "Terminal B Screw, Pitch 5mm, H 12.6mm"
height 12.6
pads (3):
  round 2 / inner round 2 / far side rect 2.4x3 hole 1.2: 1(5,0)
  round 2 / inner round 2 / far side oval 2.4x3 hole 1.2: 2(0,0) 3(-5,0)
Top Overlay:
  circle w0.2: c-5,0 r1.7
  circle w0.2: c0,0 r1.7
  circle w0.2: c5,0 r1.7
  region: -3.4,4.1 -6.6,4.1 -6.6,3.1 -3.4,3.1
  region: 1.6,4.1 -1.6,4.1 -1.6,3.1 1.6,3.1
  region: 6.6,4.1 3.4,4.1 3.4,3.1 6.6,3.1
  lines w0.2: -7.5,2.2 7.5,2.2 ; -7.5,3.2 7.5,3.2 ; -6.343,-0.919 -6.061,-0.636 ; -5.919,-1.344 -5.636,-1.061 ; -4.364,1.061 -4.081,1.343 ; -3.939,0.636 -3.656,0.919 ; -1.344,-0.919 -1.061,-0.636 ; -0.919,-1.344 -0.636,-1.061 ; 0.636,1.061 0.919,1.343 ; 1.061,0.636 1.343,0.919 ; 3.656,-0.919 3.939,-0.636 ; 4.081,-1.344 4.363,-1.061 ; 5.636,1.061 5.919,1.343 ; 6.061,0.636 6.343,0.919 ; 7.492,-3.526 8.2,-3.741 8.2,-2.667 7.494,-2.881 ; -7.5,-5.1 -7.5,4.1 7.5,4.1 7.5,-5.1 -7.5,-5.1
3D body "DG305-5.0-03P-12-00AH.STEP": height 12.6, standoff -4.9, extent -7.499,-5.08 8.101,3.92

## DG305_5P0_04 [mm] "Terminal B Screw, Pitch 5mm, H 12.6mm"
height 12.6
pads (4):
  round 2 / inner round 2 / far side rect 2.4x3 hole 1.2: 1(7.5,0)
  round 2 / inner round 2 / far side oval 2.4x3 hole 1.2: 2(2.5,0) 3(-2.5,0) 4(-7.5,0)
Top Overlay:
  circle w0.2: c7.5,0 r1.7
  circle w0.2: c2.5,0 r1.7
  circle w0.2: c-2.5,0 r1.7
  circle w0.2: c-7.5,0 r1.7
  region: 9.1,4.1 5.9,4.1 5.9,3.1 9.1,3.1
  region: 4.1,4.1 0.9,4.1 0.9,3.1 4.1,3.1
  region: -0.9,4.1 -4.1,4.1 -4.1,3.1 -0.9,3.1
  region: -5.9,4.1 -9.1,4.1 -9.1,3.1 -5.9,3.1
  lines w0.2: -10,2.2 10,2.2 ; -10,3.2 10,3.2 ; -8.843,-0.919 -8.561,-0.636 ; -8.419,-1.344 -8.136,-1.061 ; -6.864,1.061 -6.581,1.343 ; -6.439,0.636 -6.156,0.919 ; -3.843,-0.919 -3.561,-0.636 ; -3.419,-1.344 -3.136,-1.061 ; -1.864,1.061 -1.581,1.343 ; -1.439,0.636 -1.156,0.919 ; 1.156,-0.919 1.439,-0.636 ; 1.581,-1.344 1.863,-1.061 ; 3.136,1.061 3.419,1.343 ; 3.561,0.636 3.843,0.919 ; 6.156,-0.919 6.439,-0.636 ; 6.581,-1.344 6.863,-1.061 ; 8.136,1.061 8.419,1.343 ; 8.56,0.636 8.843,0.919 ; 9.992,-3.526 10.7,-3.741 10.7,-2.667 9.994,-2.881 ; -10,-5.1 10,-5.1 10,4.1 -10,4.1 -10,-5.1
3D body "DG305-5.0-04P-12-00AH.STEP": height 12.6, standoff -4.9, extent -10.039,-5.08 10.561,3.92